# Altium footprint library IC_Texas_Instruments_SN74LVC4245APW_eec_0.PcbLib: 1 footprints
Each footprint in its own frame and in the unit in brackets; x right, y up, seen from the top. Pads: shape width x height; smd on the part's side, far side on the other; paste and mask are expansions set on the pad; w line width, h text height; cw(c..) or ccw(c..) is an arc to the next point about the centre after c.
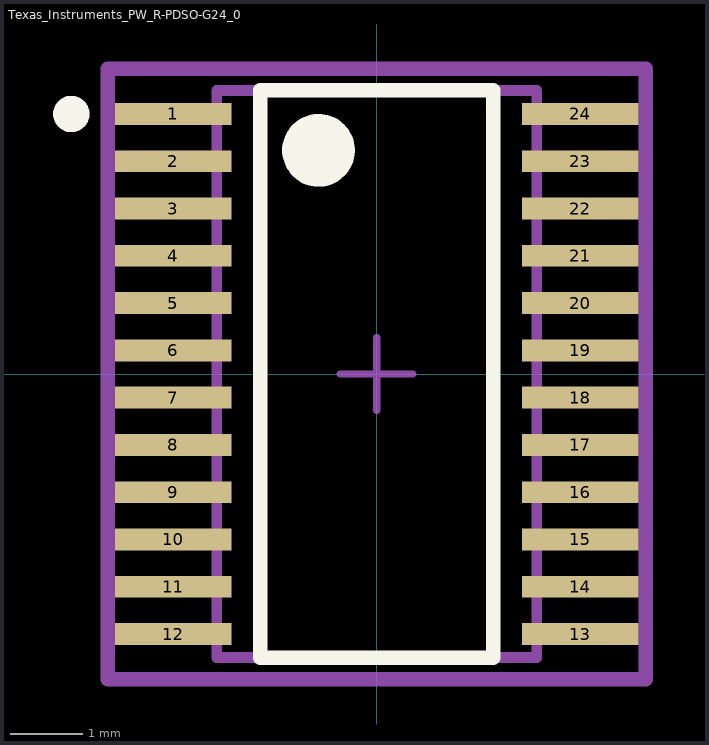
[diagram p0: the footprint, top view; thin cyan lines are the x and y axes]

## Texas_Instruments_PW_R-PDSO-G24_0 [mm]
pads (24):
  rect 1.6x0.3 smd paste-1000 mask+0: 1(-2.8,3.575) 2(-2.8,2.925) 3(-2.8,2.275) 4(-2.8,1.625) 5(-2.8,0.975) 6(-2.8,0.325) 7(-2.8,-0.325) 8(-2.8,-0.975) 9(-2.8,-1.625) 10(-2.8,-2.275) 11(-2.8,-2.925) 12(-2.8,-3.575) 13(2.8,-3.575) 14(2.8,-2.925) 15(2.8,-2.275) 16(2.8,-1.625) 17(2.8,-0.975) 18(2.8,-0.325) 19(2.8,0.325) 20(2.8,0.975) 21(2.8,1.625) 22(2.8,2.275) 23(2.8,2.925) 24(2.8,3.575)
Top Overlay:
  circle w0.25: c-4.2,3.575 r0.125
  circle w0.5: c-0.8,3.075 r0.25
  lines w0.2: -1.6,-3.9 1.6,-3.9 1.6,3.9 -1.6,3.9 -1.6,-3.9
Top Paste:
  rectangle: 2.025,-3.7 3.575,-3.45
  rectangle: 2.025,-3.05 3.575,-2.8
  rectangle: 2.025,-2.4 3.575,-2.15
  rectangle: 2.025,-1.75 3.575,-1.5
  rectangle: 2.025,-1.1 3.575,-0.85
  rectangle: 2.025,-0.45 3.575,-0.2
  rectangle: 2.025,0.2 3.575,0.45
  rectangle: 2.025,0.85 3.575,1.1
  rectangle: 2.025,1.5 3.575,1.75
  rectangle: 2.025,2.15 3.575,2.4
  rectangle: 2.025,2.8 3.575,3.05
  rectangle: 2.025,3.45 3.575,3.7
  rectangle: -3.575,-3.7 -2.025,-3.45
  rectangle: -3.575,-3.05 -2.025,-2.8
  rectangle: -3.575,-2.4 -2.025,-2.15
  rectangle: -3.575,-1.75 -2.025,-1.5
  rectangle: -3.575,-1.1 -2.025,-0.85
  rectangle: -3.575,-0.45 -2.025,-0.2
  rectangle: -3.575,0.2 -2.025,0.45
  rectangle: -3.575,0.85 -2.025,1.1
  rectangle: -3.575,1.5 -2.025,1.75
  rectangle: -3.575,2.15 -2.025,2.4
  rectangle: -3.575,2.8 -2.025,3.05
  rectangle: -3.575,3.45 -2.025,3.7
Mechanical 10:
  lines w0.2: -3.7,-4.2 3.7,-4.2 3.7,4.2 -3.7,4.2 -3.7,-4.2
  text ".Designator" at 0,0 h1
Mechanical 12:
  lines w0.15: -2.2,-3.9 2.2,-3.9 2.2,3.9 -2.2,3.9 -2.2,-3.9
Mechanical 15:
  lines w0.1: -0.5,0 0.5,0 -0.5,0 ; 0,-0.5 0,0.5 0,-0.5
  lines w0.2: -3.7,-4.2 3.7,-4.2 3.7,4.2 -3.7,4.2 -3.7,-4.2
3D body "IC_Texas_Instruments_SN74LVC4245APW_eec.STEP": height 0.25, standoff 0, extent -3.7,-4.2 3.7,4.2